# Altium schematic symbol library SCH - ARM CORTEX - NXP LPC834M101FHI33.SchLib: 1 symbol
Pins are listed as number, name and electrical type; pins without a type are passive.

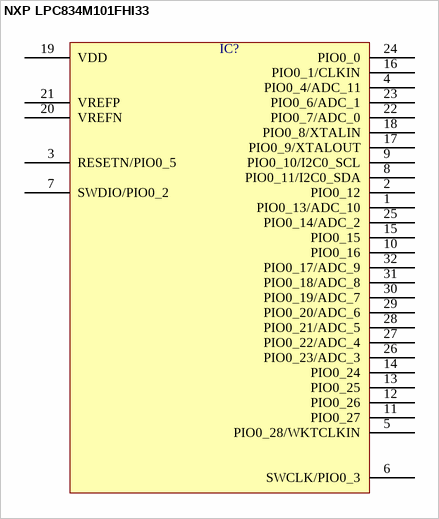
[diagram p0: symbol NXP LPC834M101FHI33]

## NXP LPC834M101FHI33
designator IC?  (value not drawn)
pins: 1 PIO0_13/ADC_10, 2 PIO0_12, 3 RESETN/PIO0_5, 4 PIO0_4/ADC_11, 5 PIO0_28/WKTCLKIN, 6 SWCLK/PIO0_3, 7 SWDIO/PIO0_2, 8 PIO0_11/I2C0_SDA, 9 PIO0_10/I2C0_SCL, 10 PIO0_16, 11 PIO0_27, 12 PIO0_26, 13 PIO0_25, 14 PIO0_24, 15 PIO0_15, 16 PIO0_1/CLKIN, 17 PIO0_9/XTALOUT, 18 PIO0_8/XTALIN, 19 VDD, 20 VREFN, 21 VREFP, 22 PIO0_7/ADC_0, 23 PIO0_6/ADC_1, 24 PIO0_0, 25 PIO0_14/ADC_2, 26 PIO0_23/ADC_3, 27 PIO0_22/ADC_4, 28 PIO0_21/ADC_5, 29 PIO0_20/ADC_6, 30 PIO0_19/ADC_7, 31 PIO0_18/ADC_8, 32 PIO0_17/ADC_9